# Altium footprint library Nexperia.PcbLib: 1 footprints
Each footprint in its own frame and in the unit in brackets; x right, y up, seen from the top. Pads: shape width x height; smd on the part's side, far side on the other; paste and mask are expansions set on the pad; w line width, h text height; cw(c..) or ccw(c..) is an arc to the next point about the centre after c.
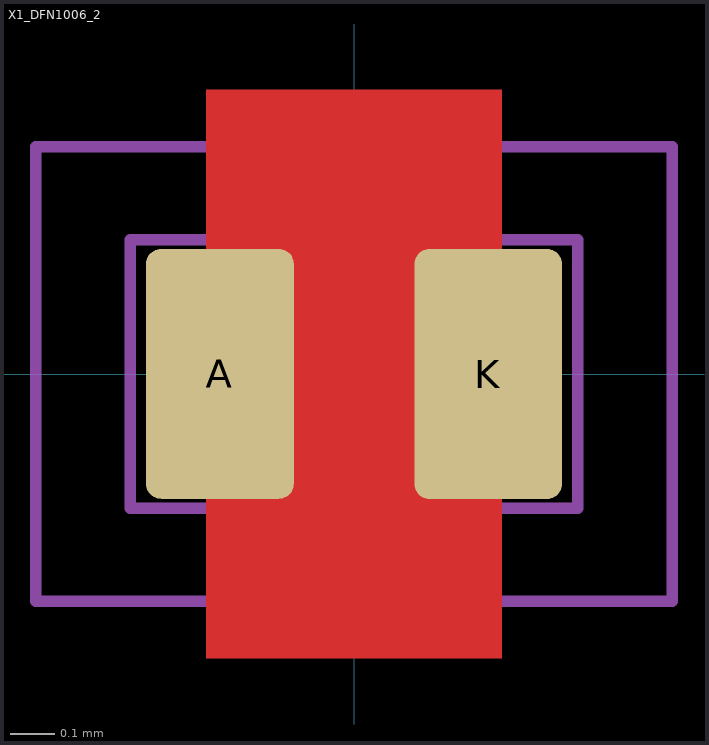
[diagram p0: the footprint, top view; thin cyan lines are the x and y axes]

## X1_DFN1006_2 [mil] "DFN Diode"
pads (2):
  rrect20% 13x22 smd paste-2 mask+2: A(-11.8,0.01) K(11.81,0)
Top Layer:
  pour cut-out: 13,-25 -13,-25 -13,25 13,25
Top Solder:
  region: 8,20 -8,20 -8,-20 8,-20
Top Designator:
  text ".Designator" at -72.94,-7.14 h20
Top Courtyard:
  lines w1: -28,-20 28,-20 28,20 -28,20 -28,-20
Top Component Outline:
  lines w1: -19.68,-11.8 19.69,-11.8 19.69,11.82 -19.68,11.82 -19.68,-11.8 ; -16.72,-9.44 -16.72,9.46 -6.88,9.46 -6.88,-9.44 -16.72,-9.44 ; 6.89,-9.45 6.89,9.45 16.73,9.45 16.73,-9.45 6.89,-9.45
3D body: height 15.35, standoff 0.39, extent -19.68,-11.8 19.69,11.82